# EAGLE library part STM-DEV-BOARD (library SPEAR)
STM Dev board device for SPEAR custom board
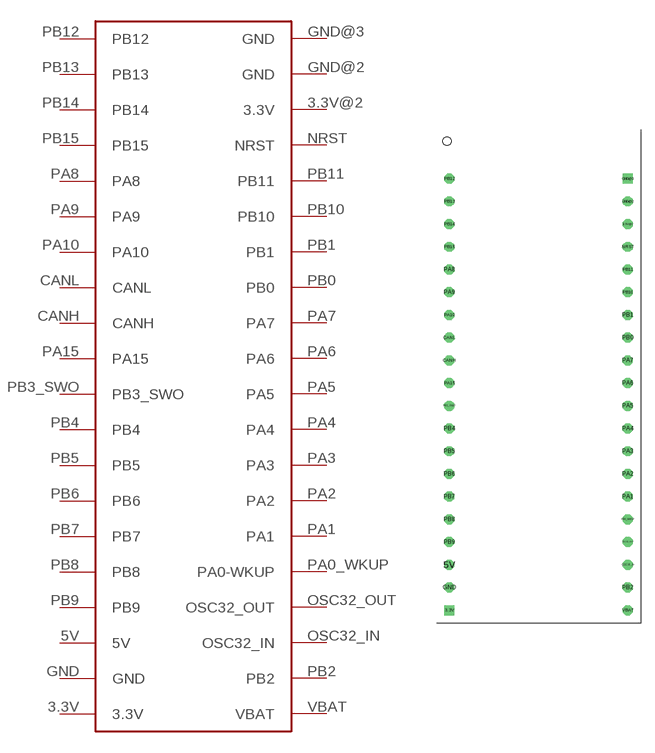
[diagram p3: symbol with the pads of STM-DEV-BOARD; footprint STM-DEV-BOARD]

Designator prefix -

## STM-DEV-BOARD  [STM-DEV-BOARD]
3.3V  3.3V
3.3V@2  3.3V
5V  5V
CANH  CANH
CANL  CANL
GND  GND
GND@2  GND
GND@3  GND
NRST  NRST
OSC32_IN  OSC32_IN
OSC32_OUT  OSC32_OUT
PA0_WKUP  PA0-WKUP
PA1  PA1
PA2  PA2
PA3  PA3
PA4  PA4
PA5  PA5
PA6  PA6
PA7  PA7
PA8  PA8
PA9  PA9
PA10  PA10
PA15  PA15
PB0  PB0
PB1  PB1
PB2  PB2
PB3_SWO  PB3_SWO
PB4  PB4
PB5  PB5
PB6  PB6
PB7  PB7
PB8  PB8
PB9  PB9
PB10  PB10
PB11  PB11
PB12  PB12
PB13  PB13
PB14  PB14
PB15  PB15
VBAT  VBAT

## Footprint STM-DEV-BOARD (pad centres in mm)
drill 0.6 square: 3.3V 0,0; GND@3 19.939,48.26
drill 0.6 octagon: 3.3V@2 19.939,43.18; 5V 0,5.08; CANH 0,27.94; CANL 0,30.48; GND 0,2.54; GND@2 19.939,45.72; NRST 19.939,40.64; OSC32_IN 19.939,5.08; OSC32_OUT 19.939,7.62; PA0_WKUP 19.939,10.16; PA1 19.939,12.7; PA2 19.939,15.24; PA3 19.939,17.78; PA4 19.939,20.32; PA5 19.939,22.86; PA6 19.939,25.4; PA7 19.939,27.94; PA8 0,38.1; PA9 0,35.56; PA10 0,33.02; PA15 0,25.4; PB0 19.939,30.48; PB1 19.939,33.02; PB2 19.939,2.54; PB3_SWO 0,22.86; PB4 0,20.32; PB5 0,17.78; PB6 0,15.24; PB7 0,12.7; PB8 0,10.16; PB9 0,7.62; PB10 19.939,35.56; PB11 19.939,38.1; PB12 0,48.26; PB13 0,45.72; PB14 0,43.18; PB15 0,40.64; VBAT 19.939,0